# EAGLE library part SI7960 (library transistor-fet)
Dual N-Channel 60-V (D-S) MOSFET
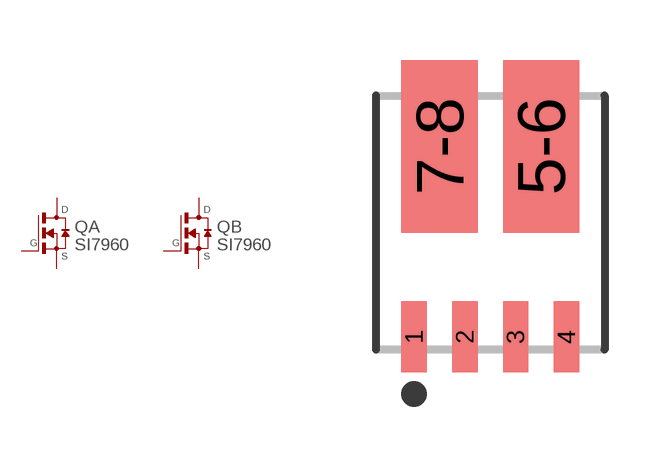
[diagram p4: symbol with the pads of POWERPAK-SO-08-DUAL; footprint POWERPAK-SO-08-DUAL]

Designator prefix Q; gates A=EMOS-ND B=EMOS-ND

## SI7960  [POWERPAK-SO-08-DUAL]
1  A:S  pas
2  A:G  pas
3  B:S  pas
4  B:G  pas
5-6  B:D  pas
7-8  A:D  pas

## Footprint POWERPAK-SO-08-DUAL (pad centres in mm)
smd 0.635 x 1.778: 1 -1.905,-2.857; 2 -0.635,-2.857; 3 0.635,-2.857; 4 1.905,-2.857
smd 1.905 x 4.318: 5-6 1.27,1.905; 7-8 -1.27,1.905